# Altium integrated library Linear Technology Power Management LED Driver ICs.IntLib: 490 symbols (part 4 of 48)
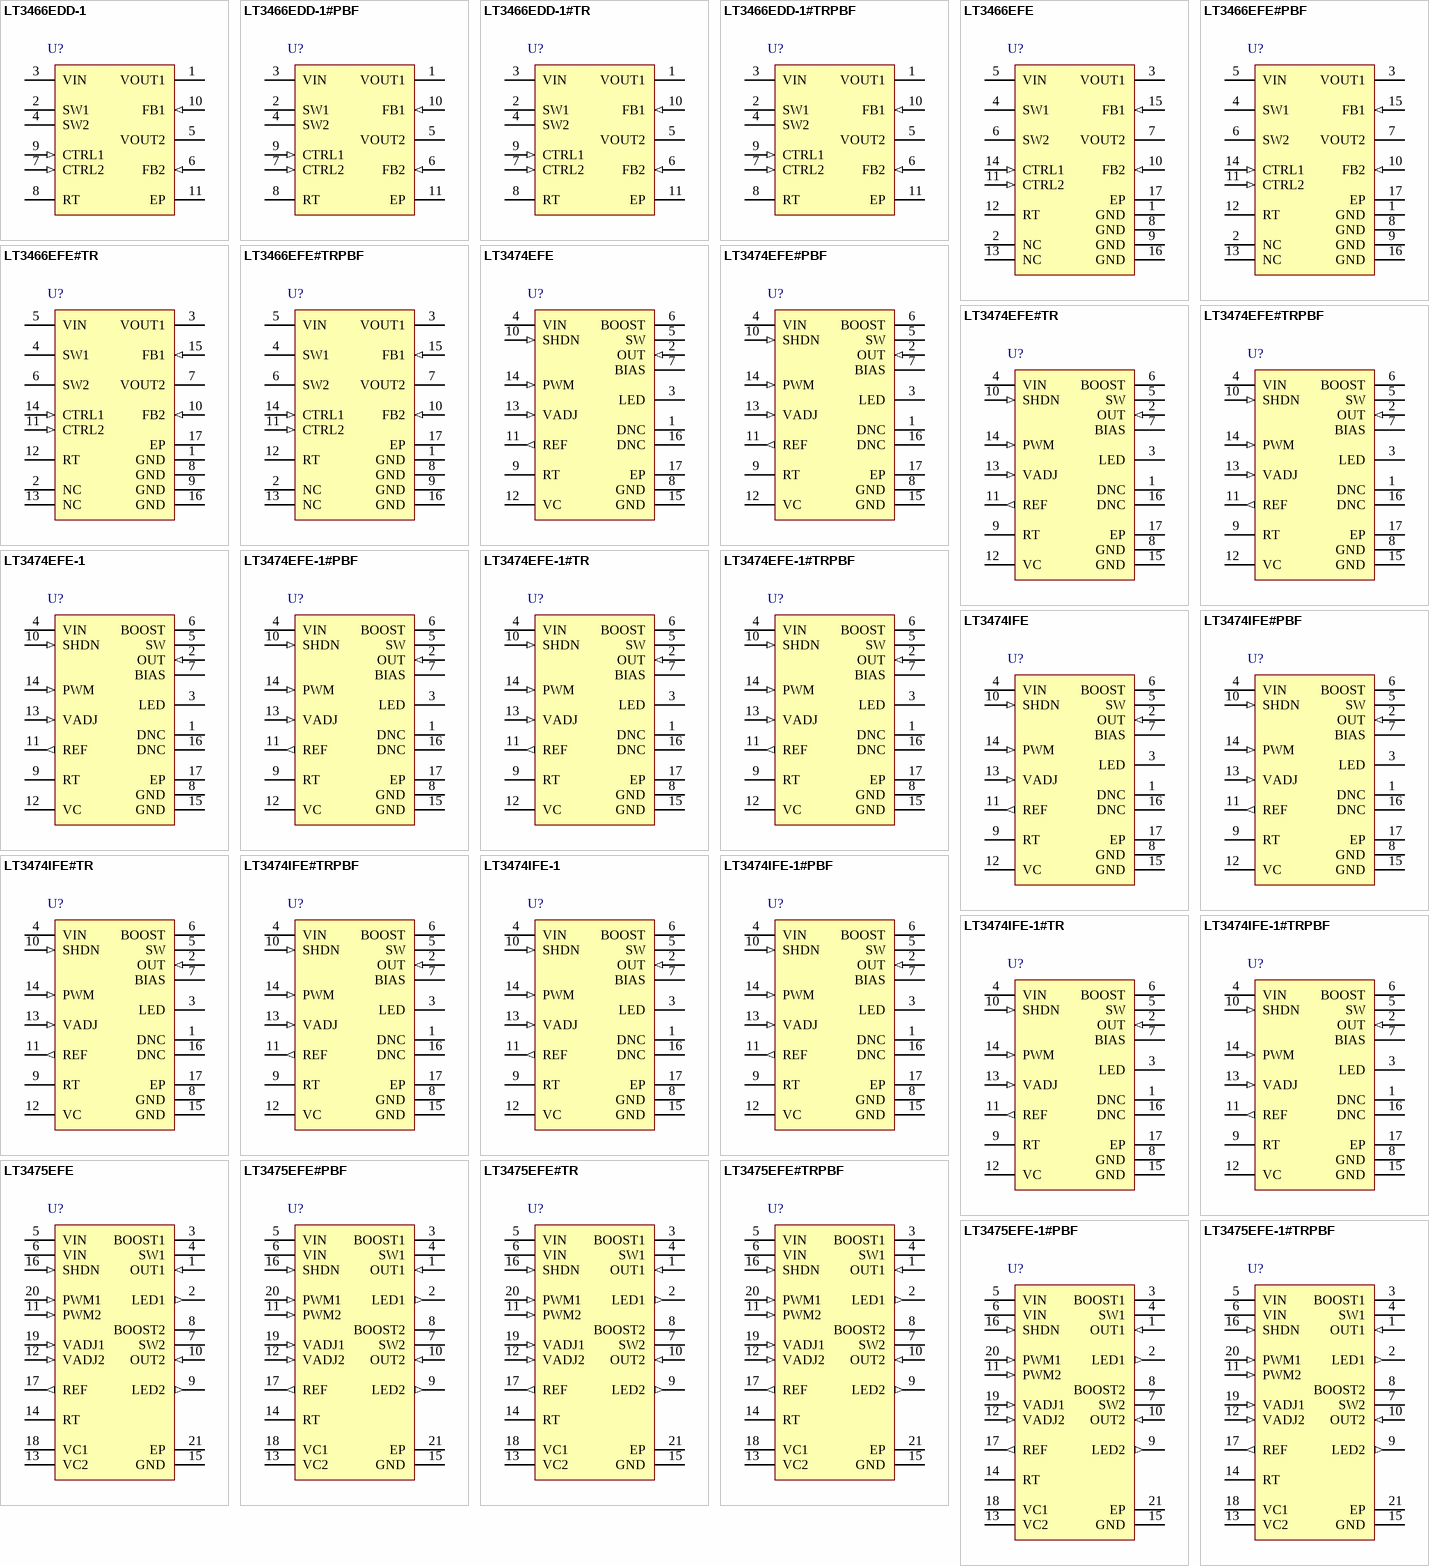
[diagram p23: symbols LT3466EDD-1 to LT3475EFE-1#TRPBF]

## LT3474IFE#PBF
designator U?
Step-Down 1 A LED Driver with Open Circuit Protection, 4 to 36 V Vin, 15 V Vout MAX, 16-pin SOP (FE-16-EPV-BA), -40 to 125 degC, Pb-Free; Manufacturer: Linear Technology; PartNumber: LT3474IFE#PBF; Topology: Buck, LED Driver; Vin Min(V): 4; DatasheetVersion: Rev. D; PackageVersion: Rev. I, 05/2011; PackageReference: FE-16; PackageDescription: 16-Pin Plastic TSSOP, Body 5 x 4.4 mm, Pitch 0.65 mm; Supplier 1: Digi-Key; Supplier Part Number 1: LT3474IFE#PBF-ND; Supplier 2: Farnell; Supplier Part Number 2: 2115863; Supplier 3: Newark; Supplier Part Number 3: 57M8290; RoHS: TRUE; Mounting Technology: Surface Mount; ComponentLink1Description: Manufacturer URL; ComponentLink1URL: http://www.linear.com/; ComponentLink2Description: Datasheet; ComponentLink2URL: http://cds.linear.com/docs/en/datasheet/3474fd.pdf; ComponentLink3Description: Package Specification; ComponentLink3URL: http://cds.linear.com/docs/en/packaging/05081663_J_FE16(BA).pdf
footprint LT-FE-16-EPV-BA_N (SOP, 16-Leads, Body 5x4.4mm, Pitch 0.65mm, Thermal Pad 2.74x2.74mm, IPC Medium Density)
footprint LT-FE-16-EPV-BA_L (SOP, 16-Leads, Body 5x4.4mm, Pitch 0.65mm, Thermal Pad 2.74x2.74mm, IPC High Density)
footprint LT-FE-16-EPV-BA_M (SOP, 16-Leads, Body 5x4.4mm, Pitch 0.65mm, Thermal Pad 2.74x2.74mm, IPC Low Density)
pins: 1 DNC "Do not connect external circuitry to these pins, or tie them to GND. Leave the DNC pins floating.", 2 OUT (in) "The OUT pin is the input to the current sense resistor. Connect this pin to the inductor and the output capacitor.", 3 LED (power) "The LED pin is the output of the current sense resistor. Connect the anode of the LED here.", 4 VIN (power) "The VIN pin supplies current to the internal circuitry and to the internal power switch and must be locally bypassed.", 5 SW (power) "The SW pin is the output of the internal power switch. Connect this pin to the inductor and switching diode.", 6 BOOST "The BOOST pin is used to provide a drive voltage, higher than the input voltage, to the internal bipolar NPN power switch.", 7 BIAS (power) "The BIAS pin connects through a Schottky diode to BOOST. Tie to OUT.", 8 GND (power) "Ground. Tie both GND pins and the Exposed Pad directly to the ground plane. The Exposed Pad metal of the package provides both electrical contact to ground and good thermal contact to the printed circuit board. It must be (See Datasheet)", 9 RT "The RT pin is used to set the internal oscillator frequency. Tie an 80.6k resistor from RT to GND for a 500kHz switching frequency", 10 SHDN (in) "The SHDN pin is used to shut down the switching regulator and the internal bias circuits. The 2.6V switching threshold can function as an accurate under-voltage lockout. Pull below 0.3V to shut down the LT3474/LT3474-1. Pull (See Datasheet)", 11 REF (out) "The REF pin is the buffered output of the internal reference. Either tie the REF pin to the VADJ pin for a 1A output current, or use a resistor divider to generate a lower voltage at the VADJ pin. Leave this pin unconnected (See Datasheet)", 12 VC "The Vc pin is the output of the internal error amp. The voltage on this pin controls the peak switch current. Use this pin to compensate the control loop.", 13 VADJ (in) "The VADJ pin is the input to the internal voltage to current amplifier. Connect the VADJ pin to the REF pin for a 1A output current. For lower output currents, program the VADJ pin using the following formula: ILED = 1A ?(See Datasheet)", 14 PWM (in) "The PWM pin controls the connection of the VC pin to the internal circuitry. When the PWM pin is low, the VC pin is disconnected from the internal circuitry and draws minimal current. If the PWM feature is unused, leave this (See Datasheet)", 15 GND (power) "Ground. Tie both GND pins and the Exposed Pad directly to the ground plane. The Exposed Pad metal of the package provides both electrical contact to ground and good thermal contact to the printed circuit board. It must be (See Datasheet)", 16 DNC "Do not connect external circuitry to these pins, or tie them to GND. Leave the DNC pins floating.", 17 EP (power)

## LT3474IFE#TR
designator U?
Step-Down 1 A LED Driver with Open Circuit Protection, 4 to 36 V Vin, 15 V Vout MAX, 16-pin SOP (FE-16-EPV-BA), -40 to 125 degC, Tape and Reel; Manufacturer: Linear Technology; PartNumber: LT3474IFE#TR; Topology: Buck, LED Driver; Vin Min(V): 4; DatasheetVersion: Rev. D; PackageVersion: Rev. I, 05/2011; PackageReference: FE-16; PackageDescription: 16-Pin Plastic TSSOP, Body 5 x 4.4 mm, Pitch 0.65 mm; Packing: Tape and Reel; RoHS: FALSE; Mounting Technology: Surface Mount; ComponentLink1Description: Manufacturer URL; ComponentLink1URL: http://www.linear.com/; ComponentLink2Description: Datasheet; ComponentLink2URL: http://cds.linear.com/docs/en/datasheet/3474fd.pdf; ComponentLink3Description: Package Specification; ComponentLink3URL: http://cds.linear.com/docs/en/packaging/05081663_J_FE16(BA).pdf
footprint LT-FE-16-EPV-BA_N (SOP, 16-Leads, Body 5x4.4mm, Pitch 0.65mm, Thermal Pad 2.74x2.74mm, IPC Medium Density)
footprint LT-FE-16-EPV-BA_L (SOP, 16-Leads, Body 5x4.4mm, Pitch 0.65mm, Thermal Pad 2.74x2.74mm, IPC High Density)
footprint LT-FE-16-EPV-BA_M (SOP, 16-Leads, Body 5x4.4mm, Pitch 0.65mm, Thermal Pad 2.74x2.74mm, IPC Low Density)
pins: 1 DNC "Do not connect external circuitry to these pins, or tie them to GND. Leave the DNC pins floating.", 2 OUT (in) "The OUT pin is the input to the current sense resistor. Connect this pin to the inductor and the output capacitor.", 3 LED (power) "The LED pin is the output of the current sense resistor. Connect the anode of the LED here.", 4 VIN (power) "The VIN pin supplies current to the internal circuitry and to the internal power switch and must be locally bypassed.", 5 SW (power) "The SW pin is the output of the internal power switch. Connect this pin to the inductor and switching diode.", 6 BOOST "The BOOST pin is used to provide a drive voltage, higher than the input voltage, to the internal bipolar NPN power switch.", 7 BIAS (power) "The BIAS pin connects through a Schottky diode to BOOST. Tie to OUT.", 8 GND (power) "Ground. Tie both GND pins and the Exposed Pad directly to the ground plane. The Exposed Pad metal of the package provides both electrical contact to ground and good thermal contact to the printed circuit board. It must be (See Datasheet)", 9 RT "The RT pin is used to set the internal oscillator frequency. Tie an 80.6k resistor from RT to GND for a 500kHz switching frequency", 10 SHDN (in) "The SHDN pin is used to shut down the switching regulator and the internal bias circuits. The 2.6V switching threshold can function as an accurate under-voltage lockout. Pull below 0.3V to shut down the LT3474/LT3474-1. Pull (See Datasheet)", 11 REF (out) "The REF pin is the buffered output of the internal reference. Either tie the REF pin to the VADJ pin for a 1A output current, or use a resistor divider to generate a lower voltage at the VADJ pin. Leave this pin unconnected (See Datasheet)", 12 VC "The Vc pin is the output of the internal error amp. The voltage on this pin controls the peak switch current. Use this pin to compensate the control loop.", 13 VADJ (in) "The VADJ pin is the input to the internal voltage to current amplifier. Connect the VADJ pin to the REF pin for a 1A output current. For lower output currents, program the VADJ pin using the following formula: ILED = 1A ?(See Datasheet)", 14 PWM (in) "The PWM pin controls the connection of the VC pin to the internal circuitry. When the PWM pin is low, the VC pin is disconnected from the internal circuitry and draws minimal current. If the PWM feature is unused, leave this (See Datasheet)", 15 GND (power) "Ground. Tie both GND pins and the Exposed Pad directly to the ground plane. The Exposed Pad metal of the package provides both electrical contact to ground and good thermal contact to the printed circuit board. It must be (See Datasheet)", 16 DNC "Do not connect external circuitry to these pins, or tie them to GND. Leave the DNC pins floating.", 17 EP (power)

## LT3474IFE#TRPBF
designator U?
Step-Down 1 A LED Driver with Open Circuit Protection, 4 to 36 V Vin, 15 V Vout MAX, 16-pin SOP (FE-16-EPV-BA), -40 to 125 degC, Pb-Free, Tape and Reel; Manufacturer: Linear Technology; PartNumber: LT3474IFE#TRPBF; Topology: Buck, LED Driver; Vin Min(V): 4; DatasheetVersion: Rev. D; PackageVersion: Rev. I, 05/2011; PackageReference: FE-16; PackageDescription: 16-Pin Plastic TSSOP, Body 5 x 4.4 mm, Pitch 0.65 mm; Supplier 1: Digi-Key; Supplier Part Number 1: LT3474IFE#TRPBF-ND; Packing: Tape and Reel; RoHS: TRUE; Mounting Technology: Surface Mount; ComponentLink1Description: Manufacturer URL; ComponentLink1URL: http://www.linear.com/; ComponentLink2Description: Datasheet; ComponentLink2URL: http://cds.linear.com/docs/en/datasheet/3474fd.pdf; ComponentLink3Description: Package Specification; ComponentLink3URL: http://cds.linear.com/docs/en/packaging/05081663_J_FE16(BA).pdf
footprint LT-FE-16-EPV-BA_N (SOP, 16-Leads, Body 5x4.4mm, Pitch 0.65mm, Thermal Pad 2.74x2.74mm, IPC Medium Density)
footprint LT-FE-16-EPV-BA_L (SOP, 16-Leads, Body 5x4.4mm, Pitch 0.65mm, Thermal Pad 2.74x2.74mm, IPC High Density)
footprint LT-FE-16-EPV-BA_M (SOP, 16-Leads, Body 5x4.4mm, Pitch 0.65mm, Thermal Pad 2.74x2.74mm, IPC Low Density)
pins: 1 DNC "Do not connect external circuitry to these pins, or tie them to GND. Leave the DNC pins floating.", 2 OUT (in) "The OUT pin is the input to the current sense resistor. Connect this pin to the inductor and the output capacitor.", 3 LED (power) "The LED pin is the output of the current sense resistor. Connect the anode of the LED here.", 4 VIN (power) "The VIN pin supplies current to the internal circuitry and to the internal power switch and must be locally bypassed.", 5 SW (power) "The SW pin is the output of the internal power switch. Connect this pin to the inductor and switching diode.", 6 BOOST "The BOOST pin is used to provide a drive voltage, higher than the input voltage, to the internal bipolar NPN power switch.", 7 BIAS (power) "The BIAS pin connects through a Schottky diode to BOOST. Tie to OUT.", 8 GND (power) "Ground. Tie both GND pins and the Exposed Pad directly to the ground plane. The Exposed Pad metal of the package provides both electrical contact to ground and good thermal contact to the printed circuit board. It must be (See Datasheet)", 9 RT "The RT pin is used to set the internal oscillator frequency. Tie an 80.6k resistor from RT to GND for a 500kHz switching frequency", 10 SHDN (in) "The SHDN pin is used to shut down the switching regulator and the internal bias circuits. The 2.6V switching threshold can function as an accurate under-voltage lockout. Pull below 0.3V to shut down the LT3474/LT3474-1. Pull (See Datasheet)", 11 REF (out) "The REF pin is the buffered output of the internal reference. Either tie the REF pin to the VADJ pin for a 1A output current, or use a resistor divider to generate a lower voltage at the VADJ pin. Leave this pin unconnected (See Datasheet)", 12 VC "The Vc pin is the output of the internal error amp. The voltage on this pin controls the peak switch current. Use this pin to compensate the control loop.", 13 VADJ (in) "The VADJ pin is the input to the internal voltage to current amplifier. Connect the VADJ pin to the REF pin for a 1A output current. For lower output currents, program the VADJ pin using the following formula: ILED = 1A ?(See Datasheet)", 14 PWM (in) "The PWM pin controls the connection of the VC pin to the internal circuitry. When the PWM pin is low, the VC pin is disconnected from the internal circuitry and draws minimal current. If the PWM feature is unused, leave this (See Datasheet)", 15 GND (power) "Ground. Tie both GND pins and the Exposed Pad directly to the ground plane. The Exposed Pad metal of the package provides both electrical contact to ground and good thermal contact to the printed circuit board. It must be (See Datasheet)", 16 DNC "Do not connect external circuitry to these pins, or tie them to GND. Leave the DNC pins floating.", 17 EP (power)

## LT3474IFE-1
designator U?
Step-Down 1 A LED Driver, No Open Circuit Protection, 4 to 36 V Vin, 26 V Vout MAX, 16-pin SOP (FE-16-EPV-BA), -40 to 125 degC; Manufacturer: Linear Technology; PartNumber: LT3474IFE-1; Topology: Buck, LED Driver; Vin Min(V): 4; DatasheetVersion: Rev. D; PackageVersion: Rev. I, 05/2011; PackageReference: FE-16; PackageDescription: 16-Pin Plastic TSSOP, Body 5 x 4.4 mm, Pitch 0.65 mm; RoHS: FALSE; Mounting Technology: Surface Mount; ComponentLink1Description: Manufacturer URL; ComponentLink1URL: http://www.linear.com/; ComponentLink2Description: Datasheet; ComponentLink2URL: http://cds.linear.com/docs/en/datasheet/3474fd.pdf; ComponentLink3Description: Package Specification; ComponentLink3URL: http://cds.linear.com/docs/en/packaging/05081663_J_FE16(BA).pdf
footprint LT-FE-16-EPV-BA_N (SOP, 16-Leads, Body 5x4.4mm, Pitch 0.65mm, Thermal Pad 2.74x2.74mm, IPC Medium Density)
footprint LT-FE-16-EPV-BA_L (SOP, 16-Leads, Body 5x4.4mm, Pitch 0.65mm, Thermal Pad 2.74x2.74mm, IPC High Density)
footprint LT-FE-16-EPV-BA_M (SOP, 16-Leads, Body 5x4.4mm, Pitch 0.65mm, Thermal Pad 2.74x2.74mm, IPC Low Density)
pins: 1 DNC "Do not connect external circuitry to these pins, or tie them to GND. Leave the DNC pins floating.", 2 OUT (in) "The OUT pin is the input to the current sense resistor. Connect this pin to the inductor and the output capacitor.", 3 LED (power) "The LED pin is the output of the current sense resistor. Connect the anode of the LED here.", 4 VIN (power) "The VIN pin supplies current to the internal circuitry and to the internal power switch and must be locally bypassed.", 5 SW (power) "The SW pin is the output of the internal power switch. Connect this pin to the inductor and switching diode.", 6 BOOST "The BOOST pin is used to provide a drive voltage, higher than the input voltage, to the internal bipolar NPN power switch.", 7 BIAS (power) "The BIAS pin connects through a Schottky diode to BOOST. Tie to OUT.", 8 GND (power) "Ground. Tie both GND pins and the Exposed Pad directly to the ground plane. The Exposed Pad metal of the package provides both electrical contact to ground and good thermal contact to the printed circuit board. It must be (See Datasheet)", 9 RT "The RT pin is used to set the internal oscillator frequency. Tie an 80.6k resistor from RT to GND for a 500kHz switching frequency", 10 SHDN (in) "The SHDN pin is used to shut down the switching regulator and the internal bias circuits. The 2.6V switching threshold can function as an accurate under-voltage lockout. Pull below 0.3V to shut down the LT3474/LT3474-1. Pull (See Datasheet)", 11 REF (out) "The REF pin is the buffered output of the internal reference. Either tie the REF pin to the VADJ pin for a 1A output current, or use a resistor divider to generate a lower voltage at the VADJ pin. Leave this pin unconnected (See Datasheet)", 12 VC "The Vc pin is the output of the internal error amp. The voltage on this pin controls the peak switch current. Use this pin to compensate the control loop.", 13 VADJ (in) "The VADJ pin is the input to the internal voltage to current amplifier. Connect the VADJ pin to the REF pin for a 1A output current. For lower output currents, program the VADJ pin using the following formula: ILED = 1A ?(See Datasheet)", 14 PWM (in) "The PWM pin controls the connection of the VC pin to the internal circuitry. When the PWM pin is low, the VC pin is disconnected from the internal circuitry and draws minimal current. If the PWM feature is unused, leave this (See Datasheet)", 15 GND (power) "Ground. Tie both GND pins and the Exposed Pad directly to the ground plane. The Exposed Pad metal of the package provides both electrical contact to ground and good thermal contact to the printed circuit board. It must be (See Datasheet)", 16 DNC "Do not connect external circuitry to these pins, or tie them to GND. Leave the DNC pins floating.", 17 EP (power)

## LT3474IFE-1#PBF
designator U?
Step-Down 1 A LED Driver, No Open Circuit Protection, 4 to 36 V Vin, 26 V Vout MAX, 16-pin SOP (FE-16-EPV-BA), -40 to 125 degC, Pb-Free; Manufacturer: Linear Technology; PartNumber: LT3474IFE-1#PBF; Topology: Buck, LED Driver; Vin Min(V): 4; DatasheetVersion: Rev. D; PackageVersion: Rev. I, 05/2011; PackageReference: FE-16; PackageDescription: 16-Pin Plastic TSSOP, Body 5 x 4.4 mm, Pitch 0.65 mm; Supplier 1: Digi-Key; Supplier Part Number 1: LT3474IFE-1#PBF-ND; Supplier 2: Newark; Supplier Part Number 2: 75M4730; RoHS: TRUE; Mounting Technology: Surface Mount; ComponentLink1Description: Manufacturer URL; ComponentLink1URL: http://www.linear.com/; ComponentLink2Description: Datasheet; ComponentLink2URL: http://cds.linear.com/docs/en/datasheet/3474fd.pdf; ComponentLink3Description: Package Specification; ComponentLink3URL: http://cds.linear.com/docs/en/packaging/05081663_J_FE16(BA).pdf
footprint LT-FE-16-EPV-BA_N (SOP, 16-Leads, Body 5x4.4mm, Pitch 0.65mm, Thermal Pad 2.74x2.74mm, IPC Medium Density)
footprint LT-FE-16-EPV-BA_L (SOP, 16-Leads, Body 5x4.4mm, Pitch 0.65mm, Thermal Pad 2.74x2.74mm, IPC High Density)
footprint LT-FE-16-EPV-BA_M (SOP, 16-Leads, Body 5x4.4mm, Pitch 0.65mm, Thermal Pad 2.74x2.74mm, IPC Low Density)
pins: 1 DNC "Do not connect external circuitry to these pins, or tie them to GND. Leave the DNC pins floating.", 2 OUT (in) "The OUT pin is the input to the current sense resistor. Connect this pin to the inductor and the output capacitor.", 3 LED (power) "The LED pin is the output of the current sense resistor. Connect the anode of the LED here.", 4 VIN (power) "The VIN pin supplies current to the internal circuitry and to the internal power switch and must be locally bypassed.", 5 SW (power) "The SW pin is the output of the internal power switch. Connect this pin to the inductor and switching diode.", 6 BOOST "The BOOST pin is used to provide a drive voltage, higher than the input voltage, to the internal bipolar NPN power switch.", 7 BIAS (power) "The BIAS pin connects through a Schottky diode to BOOST. Tie to OUT.", 8 GND (power) "Ground. Tie both GND pins and the Exposed Pad directly to the ground plane. The Exposed Pad metal of the package provides both electrical contact to ground and good thermal contact to the printed circuit board. It must be (See Datasheet)", 9 RT "The RT pin is used to set the internal oscillator frequency. Tie an 80.6k resistor from RT to GND for a 500kHz switching frequency", 10 SHDN (in) "The SHDN pin is used to shut down the switching regulator and the internal bias circuits. The 2.6V switching threshold can function as an accurate under-voltage lockout. Pull below 0.3V to shut down the LT3474/LT3474-1. Pull (See Datasheet)", 11 REF (out) "The REF pin is the buffered output of the internal reference. Either tie the REF pin to the VADJ pin for a 1A output current, or use a resistor divider to generate a lower voltage at the VADJ pin. Leave this pin unconnected (See Datasheet)", 12 VC "The Vc pin is the output of the internal error amp. The voltage on this pin controls the peak switch current. Use this pin to compensate the control loop.", 13 VADJ (in) "The VADJ pin is the input to the internal voltage to current amplifier. Connect the VADJ pin to the REF pin for a 1A output current. For lower output currents, program the VADJ pin using the following formula: ILED = 1A ?(See Datasheet)", 14 PWM (in) "The PWM pin controls the connection of the VC pin to the internal circuitry. When the PWM pin is low, the VC pin is disconnected from the internal circuitry and draws minimal current. If the PWM feature is unused, leave this (See Datasheet)", 15 GND (power) "Ground. Tie both GND pins and the Exposed Pad directly to the ground plane. The Exposed Pad metal of the package provides both electrical contact to ground and good thermal contact to the printed circuit board. It must be (See Datasheet)", 16 DNC "Do not connect external circuitry to these pins, or tie them to GND. Leave the DNC pins floating.", 17 EP (power)

## LT3474IFE-1#TR
designator U?
Step-Down 1 A LED Driver, No Open Circuit Protection, 4 to 36 V Vin, 26 V Vout MAX, 16-pin SOP (FE-16-EPV-BA), -40 to 125 degC, Tape and Reel; Manufacturer: Linear Technology; PartNumber: LT3474IFE-1#TR; Topology: Buck, LED Driver; Vin Min(V): 4; DatasheetVersion: Rev. D; PackageVersion: Rev. I, 05/2011; PackageReference: FE-16; PackageDescription: 16-Pin Plastic TSSOP, Body 5 x 4.4 mm, Pitch 0.65 mm; Packing: Tape and Reel; RoHS: FALSE; Mounting Technology: Surface Mount; ComponentLink1Description: Manufacturer URL; ComponentLink1URL: http://www.linear.com/; ComponentLink2Description: Datasheet; ComponentLink2URL: http://cds.linear.com/docs/en/datasheet/3474fd.pdf; ComponentLink3Description: Package Specification; ComponentLink3URL: http://cds.linear.com/docs/en/packaging/05081663_J_FE16(BA).pdf
footprint LT-FE-16-EPV-BA_N (SOP, 16-Leads, Body 5x4.4mm, Pitch 0.65mm, Thermal Pad 2.74x2.74mm, IPC Medium Density)
footprint LT-FE-16-EPV-BA_L (SOP, 16-Leads, Body 5x4.4mm, Pitch 0.65mm, Thermal Pad 2.74x2.74mm, IPC High Density)
footprint LT-FE-16-EPV-BA_M (SOP, 16-Leads, Body 5x4.4mm, Pitch 0.65mm, Thermal Pad 2.74x2.74mm, IPC Low Density)
pins: 1 DNC "Do not connect external circuitry to these pins, or tie them to GND. Leave the DNC pins floating.", 2 OUT (in) "The OUT pin is the input to the current sense resistor. Connect this pin to the inductor and the output capacitor.", 3 LED (power) "The LED pin is the output of the current sense resistor. Connect the anode of the LED here.", 4 VIN (power) "The VIN pin supplies current to the internal circuitry and to the internal power switch and must be locally bypassed.", 5 SW (power) "The SW pin is the output of the internal power switch. Connect this pin to the inductor and switching diode.", 6 BOOST "The BOOST pin is used to provide a drive voltage, higher than the input voltage, to the internal bipolar NPN power switch.", 7 BIAS (power) "The BIAS pin connects through a Schottky diode to BOOST. Tie to OUT.", 8 GND (power) "Ground. Tie both GND pins and the Exposed Pad directly to the ground plane. The Exposed Pad metal of the package provides both electrical contact to ground and good thermal contact to the printed circuit board. It must be (See Datasheet)", 9 RT "The RT pin is used to set the internal oscillator frequency. Tie an 80.6k resistor from RT to GND for a 500kHz switching frequency", 10 SHDN (in) "The SHDN pin is used to shut down the switching regulator and the internal bias circuits. The 2.6V switching threshold can function as an accurate under-voltage lockout. Pull below 0.3V to shut down the LT3474/LT3474-1. Pull (See Datasheet)", 11 REF (out) "The REF pin is the buffered output of the internal reference. Either tie the REF pin to the VADJ pin for a 1A output current, or use a resistor divider to generate a lower voltage at the VADJ pin. Leave this pin unconnected (See Datasheet)", 12 VC "The Vc pin is the output of the internal error amp. The voltage on this pin controls the peak switch current. Use this pin to compensate the control loop.", 13 VADJ (in) "The VADJ pin is the input to the internal voltage to current amplifier. Connect the VADJ pin to the REF pin for a 1A output current. For lower output currents, program the VADJ pin using the following formula: ILED = 1A ?(See Datasheet)", 14 PWM (in) "The PWM pin controls the connection of the VC pin to the internal circuitry. When the PWM pin is low, the VC pin is disconnected from the internal circuitry and draws minimal current. If the PWM feature is unused, leave this (See Datasheet)", 15 GND (power) "Ground. Tie both GND pins and the Exposed Pad directly to the ground plane. The Exposed Pad metal of the package provides both electrical contact to ground and good thermal contact to the printed circuit board. It must be (See Datasheet)", 16 DNC "Do not connect external circuitry to these pins, or tie them to GND. Leave the DNC pins floating.", 17 EP (power)

## LT3474IFE-1#TRPBF
designator U?
Step-Down 1 A LED Driver, No Open Circuit Protection, 4 to 36 V Vin, 26 V Vout MAX, 16-pin SOP (FE-16-EPV-BA), -40 to 125 degC, Pb-Free, Tape and Reel; Manufacturer: Linear Technology; PartNumber: LT3474IFE-1#TRPBF; Topology: Buck, LED Driver; Vin Min(V): 4; DatasheetVersion: Rev. D; PackageVersion: Rev. I, 05/2011; PackageReference: FE-16; PackageDescription: 16-Pin Plastic TSSOP, Body 5 x 4.4 mm, Pitch 0.65 mm; Supplier 1: Digi-Key; Supplier Part Number 1: LT3474IFE-1#TRPBF-ND; Packing: Tape and Reel; RoHS: TRUE; Mounting Technology: Surface Mount; ComponentLink1Description: Manufacturer URL; ComponentLink1URL: http://www.linear.com/; ComponentLink2Description: Datasheet; ComponentLink2URL: http://cds.linear.com/docs/en/datasheet/3474fd.pdf; ComponentLink3Description: Package Specification; ComponentLink3URL: http://cds.linear.com/docs/en/packaging/05081663_J_FE16(BA).pdf
footprint LT-FE-16-EPV-BA_N (SOP, 16-Leads, Body 5x4.4mm, Pitch 0.65mm, Thermal Pad 2.74x2.74mm, IPC Medium Density)
footprint LT-FE-16-EPV-BA_L (SOP, 16-Leads, Body 5x4.4mm, Pitch 0.65mm, Thermal Pad 2.74x2.74mm, IPC High Density)
footprint LT-FE-16-EPV-BA_M (SOP, 16-Leads, Body 5x4.4mm, Pitch 0.65mm, Thermal Pad 2.74x2.74mm, IPC Low Density)
pins: 1 DNC "Do not connect external circuitry to these pins, or tie them to GND. Leave the DNC pins floating.", 2 OUT (in) "The OUT pin is the input to the current sense resistor. Connect this pin to the inductor and the output capacitor.", 3 LED (power) "The LED pin is the output of the current sense resistor. Connect the anode of the LED here.", 4 VIN (power) "The VIN pin supplies current to the internal circuitry and to the internal power switch and must be locally bypassed.", 5 SW (power) "The SW pin is the output of the internal power switch. Connect this pin to the inductor and switching diode.", 6 BOOST "The BOOST pin is used to provide a drive voltage, higher than the input voltage, to the internal bipolar NPN power switch.", 7 BIAS (power) "The BIAS pin connects through a Schottky diode to BOOST. Tie to OUT.", 8 GND (power) "Ground. Tie both GND pins and the Exposed Pad directly to the ground plane. The Exposed Pad metal of the package provides both electrical contact to ground and good thermal contact to the printed circuit board. It must be (See Datasheet)", 9 RT "The RT pin is used to set the internal oscillator frequency. Tie an 80.6k resistor from RT to GND for a 500kHz switching frequency", 10 SHDN (in) "The SHDN pin is used to shut down the switching regulator and the internal bias circuits. The 2.6V switching threshold can function as an accurate under-voltage lockout. Pull below 0.3V to shut down the LT3474/LT3474-1. Pull (See Datasheet)", 11 REF (out) "The REF pin is the buffered output of the internal reference. Either tie the REF pin to the VADJ pin for a 1A output current, or use a resistor divider to generate a lower voltage at the VADJ pin. Leave this pin unconnected (See Datasheet)", 12 VC "The Vc pin is the output of the internal error amp. The voltage on this pin controls the peak switch current. Use this pin to compensate the control loop.", 13 VADJ (in) "The VADJ pin is the input to the internal voltage to current amplifier. Connect the VADJ pin to the REF pin for a 1A output current. For lower output currents, program the VADJ pin using the following formula: ILED = 1A ?(See Datasheet)", 14 PWM (in) "The PWM pin controls the connection of the VC pin to the internal circuitry. When the PWM pin is low, the VC pin is disconnected from the internal circuitry and draws minimal current. If the PWM feature is unused, leave this (See Datasheet)", 15 GND (power) "Ground. Tie both GND pins and the Exposed Pad directly to the ground plane. The Exposed Pad metal of the package provides both electrical contact to ground and good thermal contact to the printed circuit board. It must be (See Datasheet)", 16 DNC "Do not connect external circuitry to these pins, or tie them to GND. Leave the DNC pins floating.", 17 EP (power)

## LT3475EFE
designator U?
Dual Step-Down 1.5 A LED Driver, 4 to 36 V Vin, 15 V Vout MAX, 20-pin SOP (FE-20-EPV-CB), -40 to 85 degC; Manufacturer: Linear Technology; PartNumber: LT3475EFE; Topology: Buck, LED Driver; Vin Min(V): 4; DatasheetVersion: Rev. B; PackageVersion: Rev. I, 05/2011; PackageReference: FE-20; PackageDescription: 20-Pin Plastic TSSOP, Body 6.5 x 4.4 mm, Pitch 0.65 mm; RoHS: FALSE; Mounting Technology: Surface Mount; ComponentLink1Description: Manufacturer URL; ComponentLink1URL: http://www.linear.com/; ComponentLink2Description: Datasheet; ComponentLink2URL: http://cds.linear.com/docs/en/datasheet/3475fb.pdf; ComponentLink3Description: Package Specification; ComponentLink3URL: http://cds.linear.com/docs/en/packaging/05081663__J_FE20(CB).pdf
footprint LT-FE-20-EPV-CB_N (SOP, 20-Leads, Body 6.6x4.5mm, Pitch 0.65mm, Thermal Pad 3.86x2.74mm, IPC Medium Density)
footprint LT-FE-20-EPV-CB_L (SOP, 20-Leads, Body 6.6x4.5mm, Pitch 0.65mm, Thermal Pad 3.86x2.74mm, IPC High Density)
footprint LT-FE-20-EPV-CB_M (SOP, 20-Leads, Body 6.6x4.5mm, Pitch 0.65mm, Thermal Pad 3.86x2.74mm, IPC Low Density)
pins: 1 OUT1 (in) "The OUT pin is the input to the current sense resistor. Connect this pin to the inductor and the output capacitor.", 2 LED1 (out) "The LED pin is the output of the current sense resistor. Connect the anode of the LED here.", 3 BOOST1 "The BOOST pin is used to provide a drive voltage, higher than the input voltage, to the internal bipolar NPN power switch.", 4 SW1 "The SW pin is the output of the internal power switch. Connect this pin to the inductor, switching diode and boost capacitor", 5 VIN (power) "The VIN pins supply current to the internal circuitry and to the internal power switches and must be locally bypassed.", 6 VIN (power) "The VIN pins supply current to the internal circuitry and to the internal power switches and must be locally bypassed.", 7 SW2 "The SW pin is the output of the internal power switch. Connect this pin to the inductor, switching diode and boost capacitor", 8 BOOST2 "The BOOST pin is used to provide a drive voltage, higher than the input voltage, to the internal bipolar NPN power switch.", 9 LED2 (out) "The LED pin is the output of the current sense resistor. Connect the anode of the LED here.", 10 OUT2 (in) "The OUT pin is the input to the current sense resistor. Connect this pin to the inductor and the output capacitor.", 11 PWM2 (in) "The PWM pin controls the connection of the VC pin to the internal circuitry. When the PWM pin is low, the VC pin is disconnected from the internal circuitry and draws minimal current. If the PWM feature is unused, leave this (See Datasheet)", 12 VADJ2 (in) "The VADJ pin is the input to the internal voltage-to-current amplifier. Connect the VADJ pin to the REF pin for a 1.5A output current.", 13 VC2 "The VC pin is the output of the internal error amp. The voltage on this pin controls the peak switch current. Use this pin to compensate the control loop.", 14 RT "The RT pin is used to set the internal oscillator frequency. Tie a 24.3k resistor from RT to GND for a 600kHz switching frequency.", 15 GND (power) "Ground. Tie the GND pin and the exposed pad directly to the ground plane.", 16 SHDN (in) "The SHDN pin is used to shut down the switching regulator and the internal bias circuits. The 2.6V switching threshold can function as an accurate undervoltage lockout. Pull below 0.3V to shut down the LT3475/LT3475-1. Pull (See Datasheet)", 17 REF (out) "The REF pin is the buffered output of the internal reference. Either tie the REF pin to the VADJ pin for a 1.5A output current, or use a resistor divider to generate a lower voltage at the VADJ pin. Leave this pin (See Datasheet)", 18 VC1 "The VC pin is the output of the internal error amp. The voltage on this pin controls the peak switch current. Use this pin to compensate the control loop.", 19 VADJ1 (in) "The VADJ pin is the input to the internal voltage-to-current amplifier. Connect the VADJ pin to the REF pin for a 1.5A output current.", 20 PWM1 (in) "The PWM pin controls the connection of the VC pin to the internal circuitry. When the PWM pin is low, the VC pin is disconnected from the internal circuitry and draws minimal current. If the PWM feature is unused, leave this (See Datasheet)", 21 EP (power) "Ground. Tie the GND pin and the exposed pad directly to the ground plane. The exposed pad metal of the package provides both electrical contact to ground and good thermal contact to the printed circuit board. The exposed pad (See Datasheet)"

## LT3475EFE#PBF
designator U?
Dual Step-Down 1.5 A LED Driver, 4 to 36 V Vin, 15 V Vout MAX, 20-pin SOP (FE-20-EPV-CB), -40 to 85 degC, Pb-Free; Manufacturer: Linear Technology; PartNumber: LT3475EFE#PBF; Topology: Buck, LED Driver; Vin Min(V): 4; DatasheetVersion: Rev. B; PackageVersion: Rev. I, 05/2011; PackageReference: FE-20; PackageDescription: 20-Pin Plastic TSSOP, Body 6.5 x 4.4 mm, Pitch 0.65 mm; Supplier 1: Digi-Key; Supplier Part Number 1: LT3475EFE#PBF-ND; Supplier 2: Farnell; Supplier Part Number 2: 1663559; Supplier 3: Newark; Supplier Part Number 3: 57M8296; RoHS: TRUE; Mounting Technology: Surface Mount; ComponentLink1Description: Manufacturer URL; ComponentLink1URL: http://www.linear.com/; ComponentLink2Description: Datasheet; ComponentLink2URL: http://cds.linear.com/docs/en/datasheet/3475fb.pdf; ComponentLink3Description: Package Specification; ComponentLink3URL: http://cds.linear.com/docs/en/packaging/05081663__J_FE20(CB).pdf
footprint LT-FE-20-EPV-CB_N (SOP, 20-Leads, Body 6.6x4.5mm, Pitch 0.65mm, Thermal Pad 3.86x2.74mm, IPC Medium Density)
footprint LT-FE-20-EPV-CB_L (SOP, 20-Leads, Body 6.6x4.5mm, Pitch 0.65mm, Thermal Pad 3.86x2.74mm, IPC High Density)
footprint LT-FE-20-EPV-CB_M (SOP, 20-Leads, Body 6.6x4.5mm, Pitch 0.65mm, Thermal Pad 3.86x2.74mm, IPC Low Density)
pins: 1 OUT1 (in) "The OUT pin is the input to the current sense resistor. Connect this pin to the inductor and the output capacitor.", 2 LED1 (out) "The LED pin is the output of the current sense resistor. Connect the anode of the LED here.", 3 BOOST1 "The BOOST pin is used to provide a drive voltage, higher than the input voltage, to the internal bipolar NPN power switch.", 4 SW1 "The SW pin is the output of the internal power switch. Connect this pin to the inductor, switching diode and boost capacitor", 5 VIN (power) "The VIN pins supply current to the internal circuitry and to the internal power switches and must be locally bypassed.", 6 VIN (power) "The VIN pins supply current to the internal circuitry and to the internal power switches and must be locally bypassed.", 7 SW2 "The SW pin is the output of the internal power switch. Connect this pin to the inductor, switching diode and boost capacitor", 8 BOOST2 "The BOOST pin is used to provide a drive voltage, higher than the input voltage, to the internal bipolar NPN power switch.", 9 LED2 (out) "The LED pin is the output of the current sense resistor. Connect the anode of the LED here.", 10 OUT2 (in) "The OUT pin is the input to the current sense resistor. Connect this pin to the inductor and the output capacitor.", 11 PWM2 (in) "The PWM pin controls the connection of the VC pin to the internal circuitry. When the PWM pin is low, the VC pin is disconnected from the internal circuitry and draws minimal current. If the PWM feature is unused, leave this (See Datasheet)", 12 VADJ2 (in) "The VADJ pin is the input to the internal voltage-to-current amplifier. Connect the VADJ pin to the REF pin for a 1.5A output current.", 13 VC2 "The VC pin is the output of the internal error amp. The voltage on this pin controls the peak switch current. Use this pin to compensate the control loop.", 14 RT "The RT pin is used to set the internal oscillator frequency. Tie a 24.3k resistor from RT to GND for a 600kHz switching frequency.", 15 GND (power) "Ground. Tie the GND pin and the exposed pad directly to the ground plane.", 16 SHDN (in) "The SHDN pin is used to shut down the switching regulator and the internal bias circuits. The 2.6V switching threshold can function as an accurate undervoltage lockout. Pull below 0.3V to shut down the LT3475/LT3475-1. Pull (See Datasheet)", 17 REF (out) "The REF pin is the buffered output of the internal reference. Either tie the REF pin to the VADJ pin for a 1.5A output current, or use a resistor divider to generate a lower voltage at the VADJ pin. Leave this pin (See Datasheet)", 18 VC1 "The VC pin is the output of the internal error amp. The voltage on this pin controls the peak switch current. Use this pin to compensate the control loop.", 19 VADJ1 (in) "The VADJ pin is the input to the internal voltage-to-current amplifier. Connect the VADJ pin to the REF pin for a 1.5A output current.", 20 PWM1 (in) "The PWM pin controls the connection of the VC pin to the internal circuitry. When the PWM pin is low, the VC pin is disconnected from the internal circuitry and draws minimal current. If the PWM feature is unused, leave this (See Datasheet)", 21 EP (power) "Ground. Tie the GND pin and the exposed pad directly to the ground plane. The exposed pad metal of the package provides both electrical contact to ground and good thermal contact to the printed circuit board. The exposed pad (See Datasheet)"

## LT3475EFE#TR
designator U?
Dual Step-Down 1.5 A LED Driver, 4 to 36 V Vin, 15 V Vout MAX, 20-pin SOP (FE-20-EPV-CB), -40 to 85 degC, Tape and Reel; Manufacturer: Linear Technology; PartNumber: LT3475EFE#TR; Topology: Buck, LED Driver; Vin Min(V): 4; DatasheetVersion: Rev. B; PackageVersion: Rev. I, 05/2011; PackageReference: FE-20; PackageDescription: 20-Pin Plastic TSSOP, Body 6.5 x 4.4 mm, Pitch 0.65 mm; Packing: Tape and Reel; RoHS: FALSE; Mounting Technology: Surface Mount; ComponentLink1Description: Manufacturer URL; ComponentLink1URL: http://www.linear.com/; ComponentLink2Description: Datasheet; ComponentLink2URL: http://cds.linear.com/docs/en/datasheet/3475fb.pdf; ComponentLink3Description: Package Specification; ComponentLink3URL: http://cds.linear.com/docs/en/packaging/05081663__J_FE20(CB).pdf
footprint LT-FE-20-EPV-CB_N (SOP, 20-Leads, Body 6.6x4.5mm, Pitch 0.65mm, Thermal Pad 3.86x2.74mm, IPC Medium Density)
footprint LT-FE-20-EPV-CB_L (SOP, 20-Leads, Body 6.6x4.5mm, Pitch 0.65mm, Thermal Pad 3.86x2.74mm, IPC High Density)
footprint LT-FE-20-EPV-CB_M (SOP, 20-Leads, Body 6.6x4.5mm, Pitch 0.65mm, Thermal Pad 3.86x2.74mm, IPC Low Density)
pins: 1 OUT1 (in) "The OUT pin is the input to the current sense resistor. Connect this pin to the inductor and the output capacitor.", 2 LED1 (out) "The LED pin is the output of the current sense resistor. Connect the anode of the LED here.", 3 BOOST1 "The BOOST pin is used to provide a drive voltage, higher than the input voltage, to the internal bipolar NPN power switch.", 4 SW1 "The SW pin is the output of the internal power switch. Connect this pin to the inductor, switching diode and boost capacitor", 5 VIN (power) "The VIN pins supply current to the internal circuitry and to the internal power switches and must be locally bypassed.", 6 VIN (power) "The VIN pins supply current to the internal circuitry and to the internal power switches and must be locally bypassed.", 7 SW2 "The SW pin is the output of the internal power switch. Connect this pin to the inductor, switching diode and boost capacitor", 8 BOOST2 "The BOOST pin is used to provide a drive voltage, higher than the input voltage, to the internal bipolar NPN power switch.", 9 LED2 (out) "The LED pin is the output of the current sense resistor. Connect the anode of the LED here.", 10 OUT2 (in) "The OUT pin is the input to the current sense resistor. Connect this pin to the inductor and the output capacitor.", 11 PWM2 (in) "The PWM pin controls the connection of the VC pin to the internal circuitry. When the PWM pin is low, the VC pin is disconnected from the internal circuitry and draws minimal current. If the PWM feature is unused, leave this (See Datasheet)", 12 VADJ2 (in) "The VADJ pin is the input to the internal voltage-to-current amplifier. Connect the VADJ pin to the REF pin for a 1.5A output current.", 13 VC2 "The VC pin is the output of the internal error amp. The voltage on this pin controls the peak switch current. Use this pin to compensate the control loop.", 14 RT "The RT pin is used to set the internal oscillator frequency. Tie a 24.3k resistor from RT to GND for a 600kHz switching frequency.", 15 GND (power) "Ground. Tie the GND pin and the exposed pad directly to the ground plane.", 16 SHDN (in) "The SHDN pin is used to shut down the switching regulator and the internal bias circuits. The 2.6V switching threshold can function as an accurate undervoltage lockout. Pull below 0.3V to shut down the LT3475/LT3475-1. Pull (See Datasheet)", 17 REF (out) "The REF pin is the buffered output of the internal reference. Either tie the REF pin to the VADJ pin for a 1.5A output current, or use a resistor divider to generate a lower voltage at the VADJ pin. Leave this pin (See Datasheet)", 18 VC1 "The VC pin is the output of the internal error amp. The voltage on this pin controls the peak switch current. Use this pin to compensate the control loop.", 19 VADJ1 (in) "The VADJ pin is the input to the internal voltage-to-current amplifier. Connect the VADJ pin to the REF pin for a 1.5A output current.", 20 PWM1 (in) "The PWM pin controls the connection of the VC pin to the internal circuitry. When the PWM pin is low, the VC pin is disconnected from the internal circuitry and draws minimal current. If the PWM feature is unused, leave this (See Datasheet)", 21 EP (power) "Ground. Tie the GND pin and the exposed pad directly to the ground plane. The exposed pad metal of the package provides both electrical contact to ground and good thermal contact to the printed circuit board. The exposed pad (See Datasheet)"

## LT3475EFE#TRPBF
designator U?
Dual Step-Down 1.5 A LED Driver, 4 to 36 V Vin, 15 V Vout MAX, 20-pin SOP (FE-20-EPV-CB), -40 to 85 degC, Pb-Free, Tape and Reel; Manufacturer: Linear Technology; PartNumber: LT3475EFE#TRPBF; Topology: Buck, LED Driver; Vin Min(V): 4; DatasheetVersion: Rev. B; PackageVersion: Rev. I, 05/2011; PackageReference: FE-20; PackageDescription: 20-Pin Plastic TSSOP, Body 6.5 x 4.4 mm, Pitch 0.65 mm; Supplier 1: Digi-Key; Supplier Part Number 1: LT3475EFE#TRPBF-ND; Packing: Tape and Reel; RoHS: TRUE; Mounting Technology: Surface Mount; ComponentLink1Description: Manufacturer URL; ComponentLink1URL: http://www.linear.com/; ComponentLink2Description: Datasheet; ComponentLink2URL: http://cds.linear.com/docs/en/datasheet/3475fb.pdf; ComponentLink3Description: Package Specification; ComponentLink3URL: http://cds.linear.com/docs/en/packaging/05081663__J_FE20(CB).pdf
footprint LT-FE-20-EPV-CB_N (SOP, 20-Leads, Body 6.6x4.5mm, Pitch 0.65mm, Thermal Pad 3.86x2.74mm, IPC Medium Density)
footprint LT-FE-20-EPV-CB_L (SOP, 20-Leads, Body 6.6x4.5mm, Pitch 0.65mm, Thermal Pad 3.86x2.74mm, IPC High Density)
footprint LT-FE-20-EPV-CB_M (SOP, 20-Leads, Body 6.6x4.5mm, Pitch 0.65mm, Thermal Pad 3.86x2.74mm, IPC Low Density)
pins: 1 OUT1 (in) "The OUT pin is the input to the current sense resistor. Connect this pin to the inductor and the output capacitor.", 2 LED1 (out) "The LED pin is the output of the current sense resistor. Connect the anode of the LED here.", 3 BOOST1 "The BOOST pin is used to provide a drive voltage, higher than the input voltage, to the internal bipolar NPN power switch.", 4 SW1 "The SW pin is the output of the internal power switch. Connect this pin to the inductor, switching diode and boost capacitor", 5 VIN (power) "The VIN pins supply current to the internal circuitry and to the internal power switches and must be locally bypassed.", 6 VIN (power) "The VIN pins supply current to the internal circuitry and to the internal power switches and must be locally bypassed.", 7 SW2 "The SW pin is the output of the internal power switch. Connect this pin to the inductor, switching diode and boost capacitor", 8 BOOST2 "The BOOST pin is used to provide a drive voltage, higher than the input voltage, to the internal bipolar NPN power switch.", 9 LED2 (out) "The LED pin is the output of the current sense resistor. Connect the anode of the LED here.", 10 OUT2 (in) "The OUT pin is the input to the current sense resistor. Connect this pin to the inductor and the output capacitor.", 11 PWM2 (in) "The PWM pin controls the connection of the VC pin to the internal circuitry. When the PWM pin is low, the VC pin is disconnected from the internal circuitry and draws minimal current. If the PWM feature is unused, leave this (See Datasheet)", 12 VADJ2 (in) "The VADJ pin is the input to the internal voltage-to-current amplifier. Connect the VADJ pin to the REF pin for a 1.5A output current.", 13 VC2 "The VC pin is the output of the internal error amp. The voltage on this pin controls the peak switch current. Use this pin to compensate the control loop.", 14 RT "The RT pin is used to set the internal oscillator frequency. Tie a 24.3k resistor from RT to GND for a 600kHz switching frequency.", 15 GND (power) "Ground. Tie the GND pin and the exposed pad directly to the ground plane.", 16 SHDN (in) "The SHDN pin is used to shut down the switching regulator and the internal bias circuits. The 2.6V switching threshold can function as an accurate undervoltage lockout. Pull below 0.3V to shut down the LT3475/LT3475-1. Pull (See Datasheet)", 17 REF (out) "The REF pin is the buffered output of the internal reference. Either tie the REF pin to the VADJ pin for a 1.5A output current, or use a resistor divider to generate a lower voltage at the VADJ pin. Leave this pin (See Datasheet)", 18 VC1 "The VC pin is the output of the internal error amp. The voltage on this pin controls the peak switch current. Use this pin to compensate the control loop.", 19 VADJ1 (in) "The VADJ pin is the input to the internal voltage-to-current amplifier. Connect the VADJ pin to the REF pin for a 1.5A output current.", 20 PWM1 (in) "The PWM pin controls the connection of the VC pin to the internal circuitry. When the PWM pin is low, the VC pin is disconnected from the internal circuitry and draws minimal current. If the PWM feature is unused, leave this (See Datasheet)", 21 EP (power) "Ground. Tie the GND pin and the exposed pad directly to the ground plane. The exposed pad metal of the package provides both electrical contact to ground and good thermal contact to the printed circuit board. The exposed pad (See Datasheet)"